# Altium footprint library HLKPM12.PcbLib: 1 footprints
Each footprint in its own frame and in the unit in brackets; x right, y up, seen from the top. Pads: shape width x height; smd on the part's side, far side on the other; paste and mask are expansions set on the pad; w line width, h text height; cw(c..) or ccw(c..) is an arc to the next point about the centre after c.
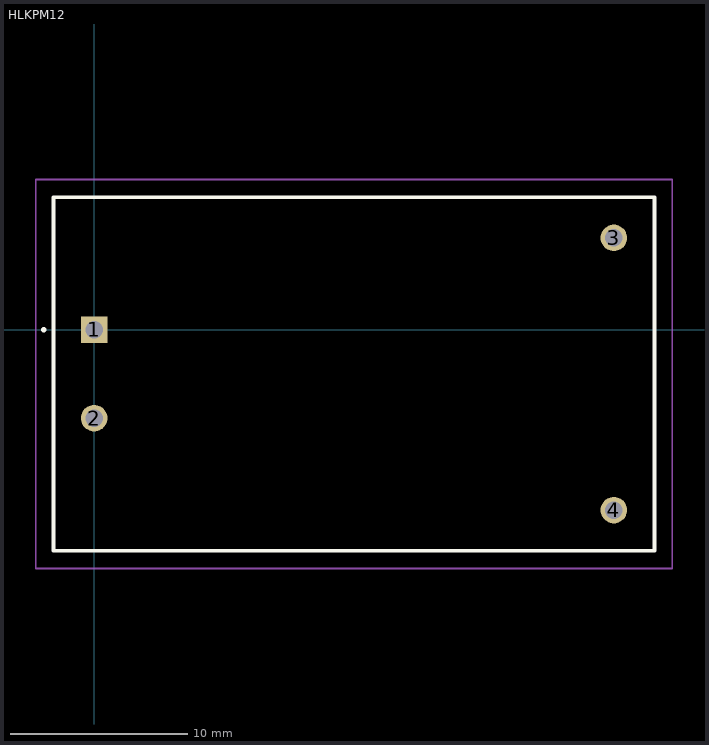
[diagram p0: the footprint, top view; thin cyan lines are the x and y axes]

## HLKPM12 [mm]
pads (4):
  rect 1.5x1.5 hole 1: 1(0,0)
  round 1.5 hole 1: 2(0,-5) 3(29.4,5.2) 4(29.4,-10.2)
Top Overlay:
  lines w0.2: -2.9,0 -2.9,0 ; -2.9,0 ccw(c-2.85,0) -2.8,0 ; -2.9,0 cw(c-2.85,0) -2.8,0 ; -2.9,0 -2.9,0 ; -2.9,0 ccw(c-2.85,0) -2.8,0 ; -2.8,0 -2.8,0 ; -2.3,-12.5 31.7,-12.5 31.7,7.5 -2.3,7.5 -2.3,-12.5
Mechanical 15:
  lines w0.1: -2.3,-12.5 31.7,-12.5 31.7,7.5 -2.3,7.5 -2.3,-12.5
Mechanical 20:
  lines w0.1: -3.3,-13.5 32.7,-13.5 32.7,8.5 -3.3,8.5 -3.3,-13.5